# Altium footprint library TE_CONN_VCF4-1000.PcbLib: 1 footprints
Each footprint in its own frame and in the unit in brackets; x right, y up, seen from the top. Pads: shape width x height; smd on the part's side, far side on the other; paste and mask are expansions set on the pad; w line width, h text height; cw(c..) or ccw(c..) is an arc to the next point about the centre after c.
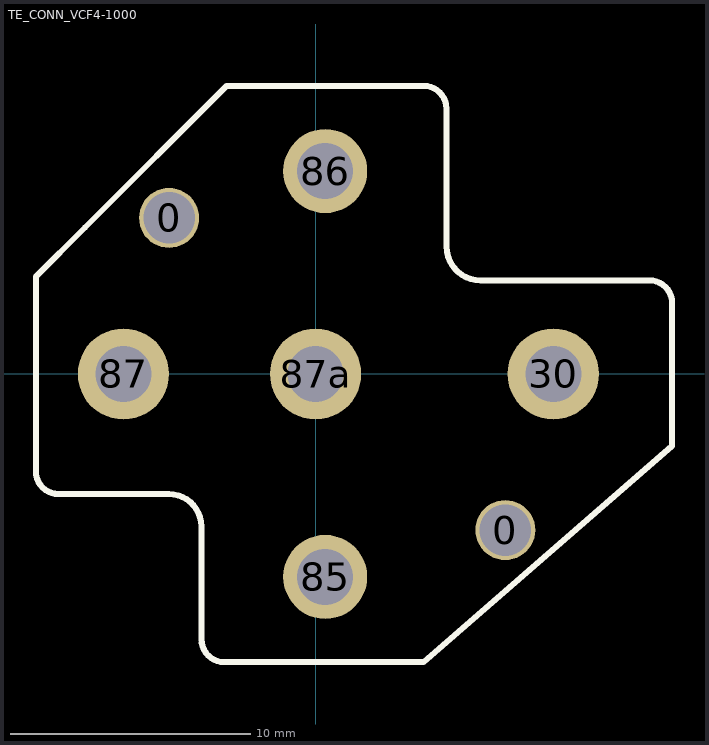
[diagram p0: the footprint, top view; thin cyan lines are the x and y axes]

## TE_CONN_VCF4-1000 [mm] "TE Connectivity Potter & Brumfield Relay Socket"
pads (7):
  round 2.5 hole 2.15: 0(-6.1,6.5) 0(7.9,-6.5)
  round 3.8 hole 2.33: 30(9.9,0) 87(-8,0) 87a(0,0)
  round 3.5 hole 2.33: 85(0.4,-8.45) 86(0.4,8.45)
Top Overlay:
  lines w0.25: -11.65,-4.05 -11.65,4.05 -9.6,6.1 ; -10.7,-5 -6.1,-5 cw(c-6.1,-6.339) -4.761,-6.339 ; -4.75,-11.05 -4.75,-6.339 ; -3.8,-12 4.5,-12 14.85,-3 14.85,3 ; 4.5,12 0.55,12 -3.7,12 -9.6,6.1 ; 5.45,5.3 5.45,11.05 ; 5.458,5.3 ccw(c6.858,5.3) 6.858,3.9 13.95,3.9 ; -9.6,6.1 -9.6,6.1
  lines w0.254: -11.65,-4.05 ccw(c-10.7,-4.05) -10.7,-5 ; -4.75,-11.05 ccw(c-3.8,-11.05) -3.8,-12 ; 4.5,12 cw(c4.5,11.05) 5.45,11.05 ; 13.9,3.9 cw(c13.9,2.95) 14.85,2.95
3D body "TE_CONN_VCF4-1000.stp": height 14.5, standoff -5.95, extent -11.64,-12 14.852,12